# Altium footprint library Tactile_Switch_SMD.PcbLib: 1 footprints
Each footprint in its own frame and in the unit in brackets; x right, y up, seen from the top. Pads: shape width x height; smd on the part's side, far side on the other; paste and mask are expansions set on the pad; w line width, h text height; cw(c..) or ccw(c..) is an arc to the next point about the centre after c.
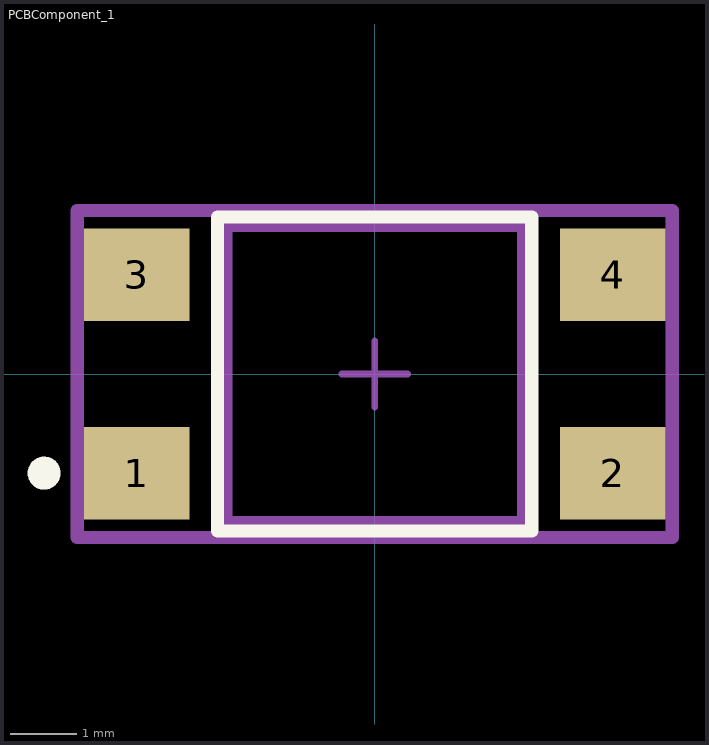
[diagram p0: the footprint, top view; thin cyan lines are the x and y axes]

## PCBComponent_1 [mm]
pads (4):
  rect 1.6x1.4 smd paste+0 mask+0: 1(-3.6,-1.5) 2(3.6,-1.5) 3(-3.6,1.5) 4(3.6,1.5)
Top Overlay:
  circle w0.25: c-5,-1.5 r0.125
  lines w0.2: -2.375,-2.375 -2.375,2.375 2.375,2.375 2.375,-2.375 -2.375,-2.375
Top Assembly:
  lines w0.2: -4.5,-2.475 4.5,-2.475 4.5,2.475 -4.5,2.475 -4.5,-2.475
Top Component Center:
  lines w0.1: -0.5,0 0.5,0 ; 0,-0.5 0,0.5
Top Component Outline:
  lines w0.2: -2.25,-2.25 2.25,-2.25 2.25,2.25 -2.25,2.25 -2.25,-2.25
Top Courtyard:
  lines w0.1: -4.5,-2.475 -4.5,2.475 4.5,2.475 4.5,-2.475 -4.5,-2.475
Top Designator:
  text ".Designator" at -7.618,-0.508 h1.52
3D body "Switch_E-Switch_TL3305AF260QG_eec.STEP": height 0.25, standoff 0, extent -4.5,-2.475 4.5,2.475